# Altium footprint library RD-dz.PcbLib: 28 footprints (part 2 of 2)
Each footprint in its own frame and in the unit in brackets; x right, y up, seen from the top. Pads: shape width x height; smd on the part's side, far side on the other; paste and mask are expansions set on the pad; w line width, h text height; cw(c..) or ccw(c..) is an arc to the next point about the centre after c.
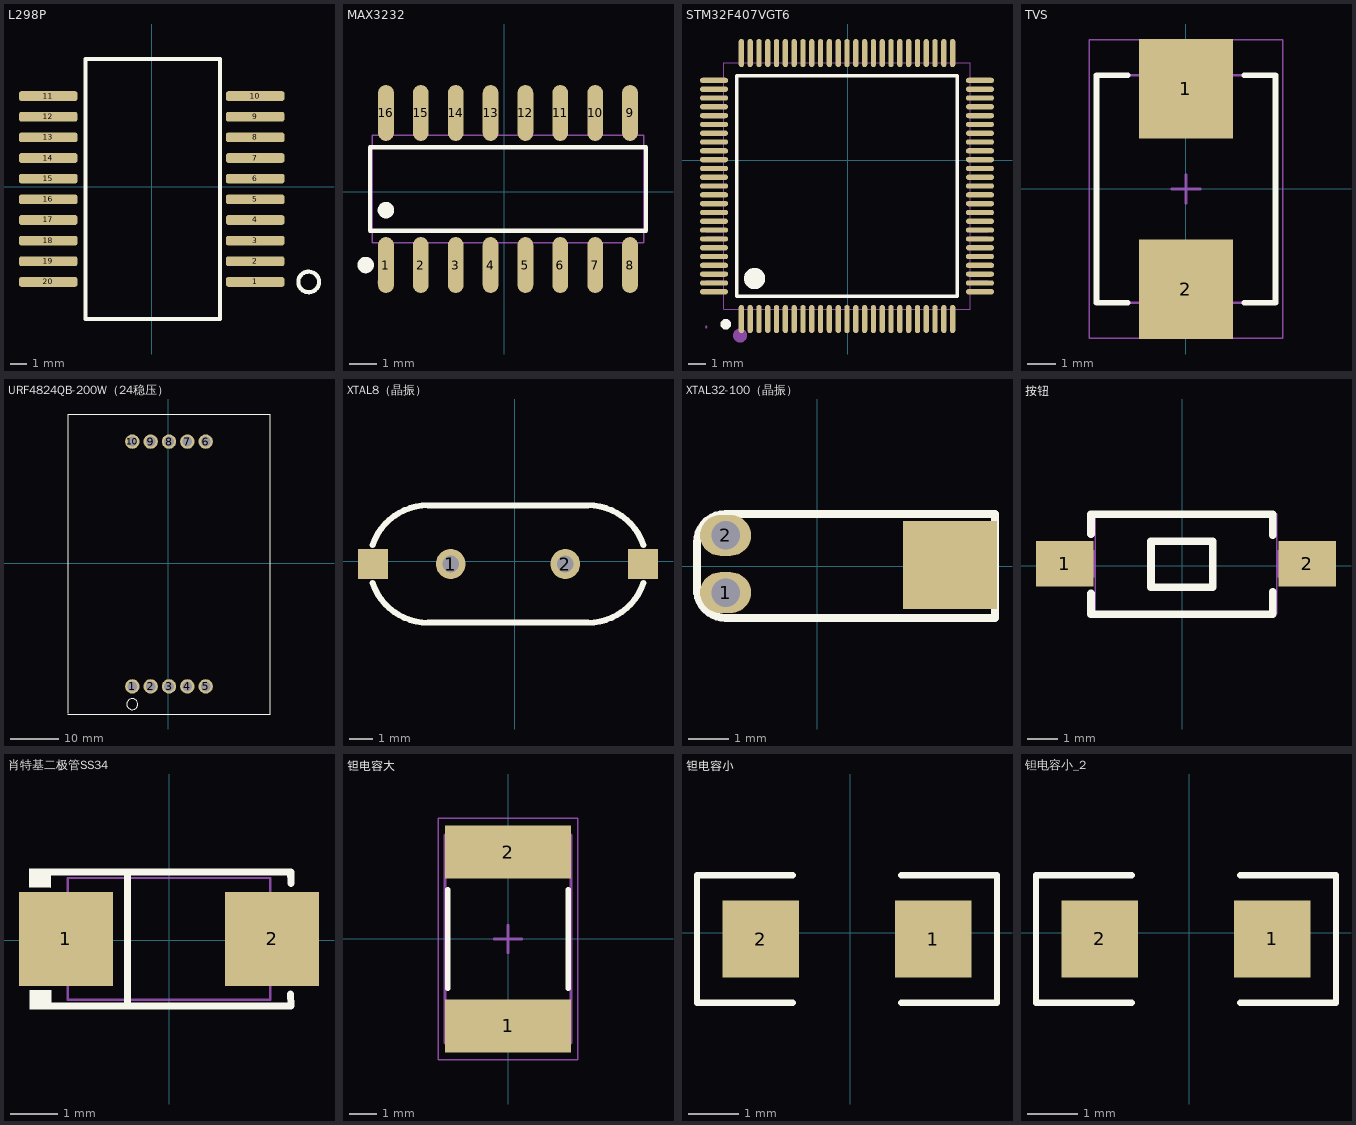
[diagram p1: the footprints below, top view; thin cyan lines are the x and y axes]

## L298P [mm]
height 1.6
pads (20):
  rrect50% 3.6x0.6 smd: 1(6.361,-5.842) 2(6.361,-4.572) 3(6.361,-3.302) 4(6.361,-2.032) 5(6.361,-0.762) 6(6.361,0.508) 7(6.361,1.778) 8(6.361,3.048) 9(6.361,4.318) 10(6.361,5.588) 11(-6.361,5.588) 12(-6.361,4.318) 13(-6.361,3.048) 14(-6.361,1.778) 15(-6.361,0.508) 16(-6.361,-0.762) 17(-6.361,-2.032) 18(-6.361,-3.302) 19(-6.361,-4.572) 20(-6.361,-5.842)
Top Overlay:
  circle w0.254: c9.652,-5.842 r0.635
  lines w0.254: -4.064,-8.127 -4.064,7.873 4.191,7.873 4.191,-8.127 -4.064,-8.127

## MAX3232 [mm]
pads (16):
  oval 0.574x2.038 smd mask+0.102: 1(-4.317,-2.664) 2(-3.047,-2.664) 3(-1.777,-2.664) 4(-0.507,-2.664) 5(0.763,-2.664) 6(2.033,-2.664) 7(3.303,-2.664) 8(4.573,-2.664) 9(4.573,2.874) 10(3.303,2.874) 11(2.033,2.874) 12(0.763,2.874) 13(-0.507,2.874) 14(-1.777,2.874) 15(-3.047,2.874) 16(-4.317,2.874)
Top Overlay:
  circle w0.3: c-4.317,-0.664 r0.15
  circle w0.3: c-5.057,-2.664 r0.15
  lines w0.152: -4.898,-1.416 -4.899,1.627 5.154,1.627 5.154,-1.416 -4.899,-1.416
Mechanical 6:
  circle w0.3: c-4.317,-3.295 r0.15
Mechanical 15:
  drawing of 36 lines, arcs and shapes, not listed

## STM32F407VGT6 [mm]
pads (100):
  oval 0.3x1.6 smd paste-100 mask+0.051: 1(-6.032,-9.026) 2(-5.532,-9.026) 3(-5.032,-9.026) 4(-4.532,-9.026) 5(-4.032,-9.026) 6(-3.532,-9.026) 7(-3.032,-9.026) 8(-2.532,-9.026) 9(-2.032,-9.026) 10(-1.532,-9.026) 11(-1.032,-9.026) 12(-0.532,-9.026) 13(-0.032,-9.026) 14(0.468,-9.026) 15(0.968,-9.026) 16(1.468,-9.026) 17(1.968,-9.026) 18(2.468,-9.026) 19(2.968,-9.026) 20(3.468,-9.026) 21(3.968,-9.026) 22(4.468,-9.026) 23(4.968,-9.026) 24(5.468,-9.026) 25(5.968,-9.026) 51(5.968,6.073) 52(5.468,6.073) 53(4.968,6.073) 54(4.468,6.073) 55(3.968,6.073) 56(3.468,6.073) 57(2.968,6.073) 58(2.468,6.073) 59(1.968,6.073) 60(1.468,6.073) 61(0.968,6.073) 62(0.468,6.073) 63(-0.032,6.073) 64(-0.532,6.073) 65(-1.032,6.073) 66(-1.532,6.073) 67(-2.032,6.073) 68(-2.532,6.073) 69(-3.032,6.073) 70(-3.532,6.073) 71(-4.032,6.073) 72(-4.532,6.073) 73(-5.032,6.073) 74(-5.532,6.073) 75(-6.032,6.073)
  oval 1.6x0.3 smd paste-100 mask+0.051: 26(7.518,-7.476) 27(7.518,-6.977) 28(7.518,-6.476) 29(7.518,-5.977) 30(7.518,-5.476) 31(7.518,-4.977) 32(7.518,-4.476) 33(7.518,-3.977) 34(7.518,-3.476) 35(7.518,-2.977) 36(7.518,-2.476) 37(7.518,-1.976) 38(7.518,-1.477) 39(7.518,-0.976) 40(7.518,-0.477) 41(7.518,0.024) 42(7.518,0.523) 43(7.518,1.024) 44(7.518,1.523) 45(7.518,2.024) 46(7.518,2.523) 47(7.518,3.024) 48(7.518,3.523) 49(7.518,4.024) 50(7.518,4.523) 76(-7.582,4.523) 77(-7.582,4.024) 78(-7.582,3.523) 79(-7.582,3.024) 80(-7.582,2.523) 81(-7.582,2.024) 82(-7.582,1.523) 83(-7.582,1.024) 84(-7.582,0.523) 85(-7.582,0.024) 86(-7.582,-0.477) 87(-7.582,-0.976) 88(-7.582,-1.477) 89(-7.582,-1.976) 90(-7.582,-2.476) 91(-7.582,-2.977) 92(-7.582,-3.476) 93(-7.582,-3.977) 94(-7.582,-4.476) 95(-7.582,-4.977) 96(-7.582,-5.476) 97(-7.582,-5.977) 98(-7.582,-6.476) 99(-7.582,-6.977) 100(-7.582,-7.476)
Top Overlay:
  lines w0.2: -6.282,-7.727 -6.282,4.773 6.218,4.773 6.218,-7.727 -6.282,-7.727
  lines w0.3: -6.916,-9.173 ccw(c-6.914,-9.323) -6.913,-9.173
  lines w0.6: -5.282,-6.427 ccw(c-5.28,-6.727) -5.277,-6.427
Top Paste:
  drawing of 100 lines, arcs and shapes, not listed
Mechanical 6:
  circle w0.4: c-6.103,-9.96 r0.2
Mechanical 15:
  drawing of 205 lines, arcs and shapes, not listed

## TVS [mm]
height 1.6
pads (2):
  rect 3.3x3.5 smd: 1(0,3.525) 2(0,-3.525)
Top Overlay:
  lines w0.2: -2.05,-4 -3.15,-4 -3.15,4 -2.05,4 ; 2.05,-4 3.15,-4 3.15,4 2.05,4
Mechanical 13:
  lines w0.1: -3.11,-4 -3.11,4 3.11,4 3.11,-4 -3.11,-4
Mechanical 15:
  lines w0.05: -3.4,-5.25 -3.4,5.25 3.4,5.25 3.4,-5.25 -3.4,-5.25
  lines w0.1: -0.5,0 0.5,0 ; 0,-0.5 0,0.5

## URF4824QB-200W（24稳压） [mm]
height 1.6
pads (10):
  round 3 hole 2: 1(-7.493,-25.527) 2(-3.683,-25.527) 3(0.127,-25.527) 4(3.937,-25.527) 5(7.747,-25.527) 6(7.747,25.273) 7(3.937,25.273) 8(0.127,25.273) 9(-3.683,25.273) 10(-7.493,25.273)
Top Overlay:
  circle w0.254: c-7.493,-29.21 r1.136
  lines w0.254: -20.873,-31.242 21.127,-31.242 ; -20.873,-31.115 -20.873,30.861 ; -20.873,30.988 21.127,30.988 21.127,-30.924 21.127,-31.242 ; 21.127,-30.607 21.127,-31.242

## XTAL8（晶振） [mil]
height 62.99
pads (4):
  round 50 hole 28: 1(-107.13,-5) 2(85,-5)
  rect 50x50 smd: ""(-237.44,-5) ""(215.31,-5)
Top Overlay:
  lines w10: -238.05,-36.85 ccw(c-144.92,-5) -144.92,-103.43 122.8,-103.42 ; -238.05,26.85 cw(c-144.92,-5) -144.92,93.42 ; -145.13,93.42 122.8,93.43 ; 122.8,-103.43 ccw(c122.8,-5) 215.93,-36.85 ; 122.8,93.42 cw(c122.8,-5) 215.93,26.85

## XTAL32-100（晶振） [mil]
height 62.99
pads (3):
  oval 50x40 hole 28: 1(-90,-26) 2(-90,30)
  rect 92.13x86 smd: ""(130,1)
Top Overlay:
  lines w8: -118,-22 ccw(c-89.5,-22.5) -90,-51 174,-51 174,51 -90,51 ccw(c-90,23) -118,23 -118,-22

## 按钮 [mm]
pads (2):
  rect 1.9x1.5 smd mask+0.102: 1(-3.876,0.059) 2(4.124,0.059)
Top Overlay:
  lines w0.254: -3.013,-0.922 -3.013,-1.609 2.987,-1.609 2.987,-0.876 ; -3.013,1.04 -3.013,1.691 2.987,1.691 2.987,0.994 ; -1.029,-0.721 1.003,-0.721 1.003,0.803 -1.029,0.803 -1.029,-0.721
Mechanical 15:
  region: -3.875,-0.391 -3.875,0.509 -3.175,0.509 -3.175,-0.391
  region: 3.424,-0.391 3.424,0.509 4.124,0.509 4.124,-0.391
  region: 3.744,0.509 3.744,-0.391 3.114,-0.391 3.114,0.509
  region: -3.496,-0.391 -3.496,0.509 -2.866,0.509 -2.866,-0.391
  lines w0.051: -2.876,-1.591 -2.876,1.709 3.124,1.709 3.124,-1.591 -2.876,-1.591

## 肖特基二极管SS34 [mm]
pads (2):
  rect 2x2 smd: 1(-2.2,0.029) 2(2.2,0.029)
Top Overlay:
  region: -2.52,1.532 -2.521,1.125 -2.981,1.13 -2.977,1.532
  region: -2.512,-1.067 -2.513,-1.473 -2.973,-1.469 -2.969,-1.067
  lines w0.152: -2.596,-1.397 2.596,-1.397 ; -2.596,1.455 2.596,1.455 2.603,1.216 ; -0.884,-1.397 -0.884,1.455 ; 2.593,-1.146 2.6,-1.386
Mechanical 6:
  region: -2.317,-0.072 -2.317,0.13 -1.507,0.13 -1.507,-0.072
  region: 2.29,-0.061 2.29,0.142 1.48,0.142 1.48,-0.061
  region: 2.014,-0.646 2.014,0.704 1.811,0.704 1.811,-0.646
Mechanical 15:
  region: 2.605,0.754 2.605,-0.696 1.48,-0.696 1.48,0.754
  region: -1.48,0.754 -1.48,-0.696 -2.605,-0.696 -2.605,0.754
  region: -2.545,-1.271 -2.545,-1.246 -2.58,-1.211 -2.63,-1.211 -2.665,-1.246 -2.665,-1.271 -2.665,-1.296 -2.63,-1.331 -2.58,-1.331 -2.545,-1.296
  lines w0.051: -2.16,-1.271 -2.16,1.329 2.16,1.329 2.16,-1.271 -2.16,-1.271

## 钽电容大 [mm]
height 1.6
pads (2):
  rect 4.6x1.95 smd: 1(0,-3.175) 2(0,3.175)
Top Overlay:
  lines w0.2: -2.2,-1.8 -2.2,1.8 ; 2.2,-1.8 2.2,1.8
Mechanical 13:
  lines w0.1: -2.3,-3.8 -2.3,3.8 2.3,3.8 2.3,-3.8 -2.3,-3.8
Mechanical 15:
  lines w0.05: -2.55,-4.4 -2.55,4.4 2.55,4.4 2.55,-4.4 -2.55,-4.4
  lines w0.1: -0.5,0 0.5,0 ; 0,-0.5 0,0.5

## 钽电容小 [mil]
height 62.99
pads (2):
  rect 60x60 smd: 1(65,-5) 2(-70,-5)
Top Overlay:
  lines w5: -45,-55 -120,-55 -120,45 -45,45 ; 40,-55 115,-55 115,45 40,45

## 钽电容小_2 [mil]
pads (2):
  rect 60x60 smd: 1(65,-5) 2(-70,-5)
Top Overlay:
  lines w5: -45,-55 -120,-55 -120,45 -45,45 ; 40,-55 115,-55 115,45 40,45